# Altium footprint library CR-10 Motherboard.PcbLib: 29 footprints (part 1 of 2)
Each footprint in its own frame and in the unit in brackets; x right, y up, seen from the top. Pads: shape width x height; smd on the part's side, far side on the other; paste and mask are expansions set on the pad; w line width, h text height; cw(c..) or ccw(c..) is an arc to the next point about the centre after c.
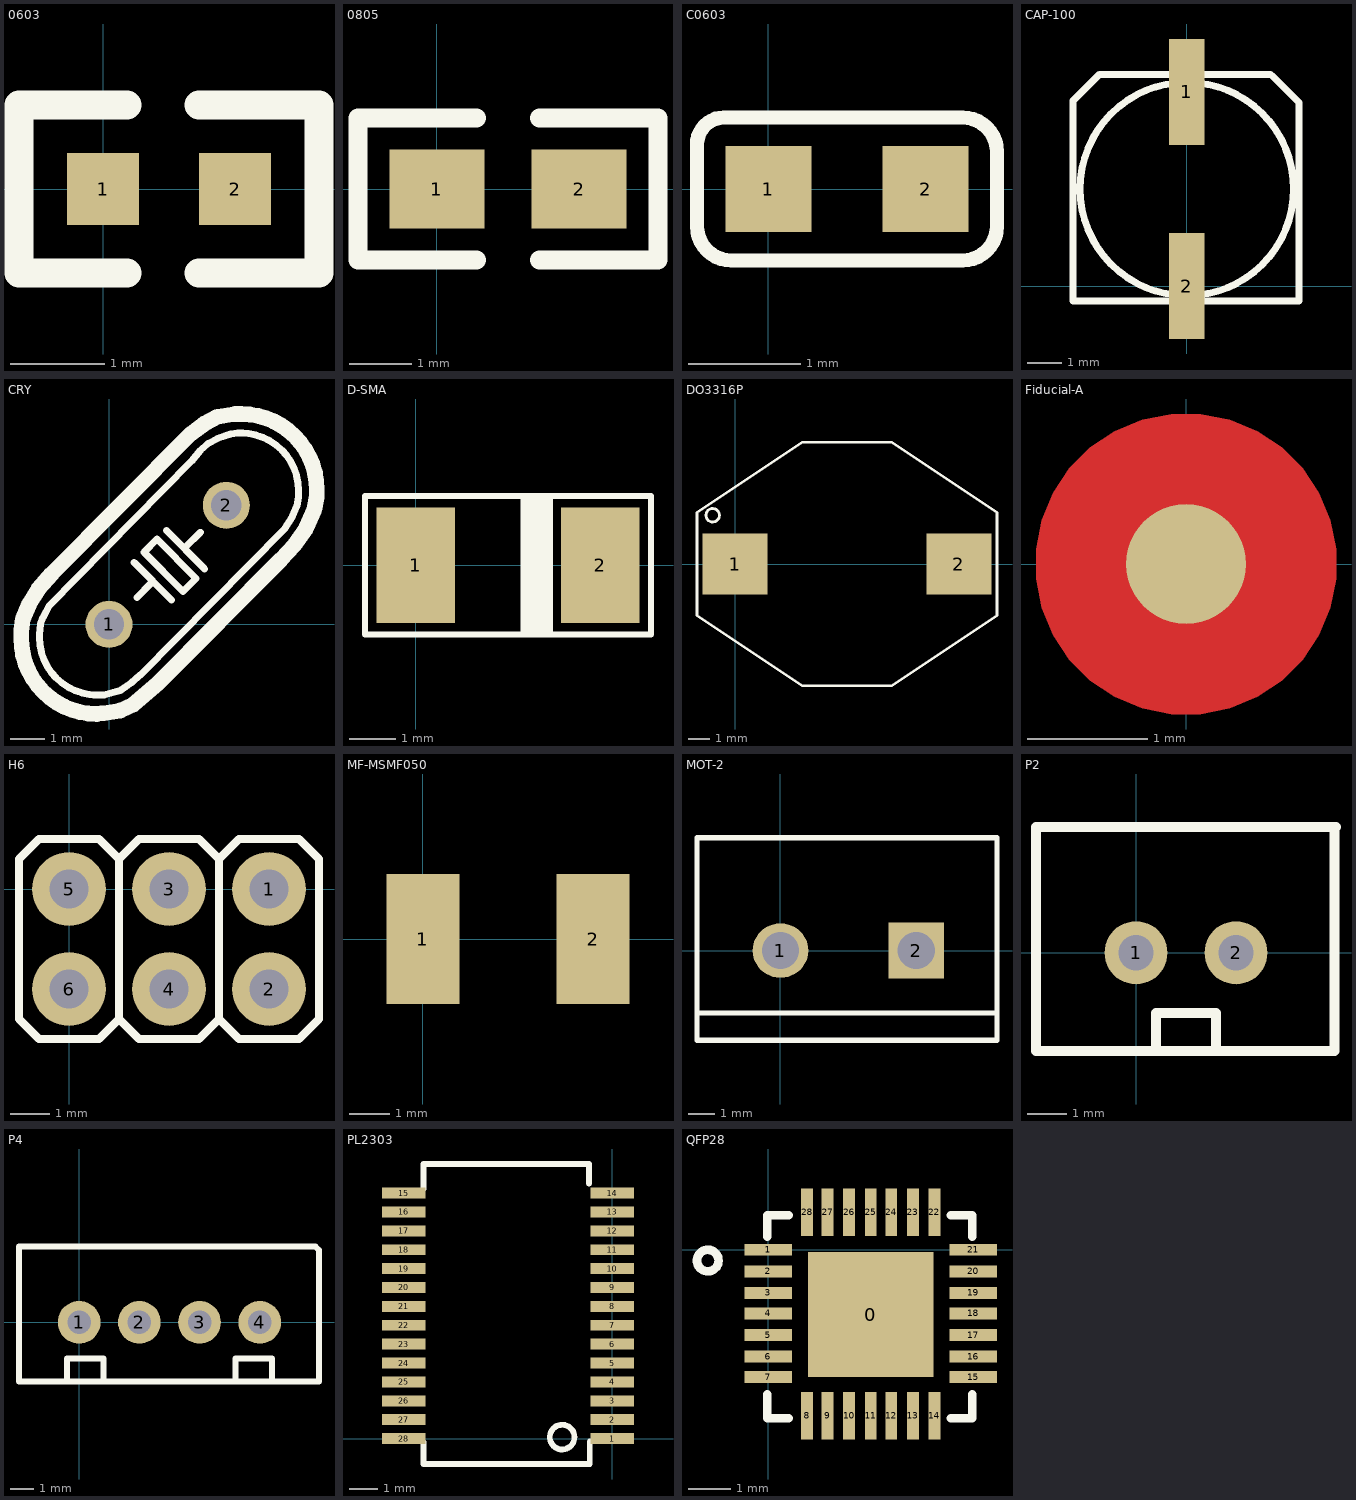
[diagram p0: the footprints below, top view; thin cyan lines are the x and y axes]

## 0603 [mil]
pads (2):
  rect 30x30 smd: 1(0,0) 2(55,0)
Top Overlay:
  lines w12: 10,-35 -35,-35 -35,35 10,35 ; 40,-35 90,-35 90,35 40,35

## 0805 [mil]
pads (2):
  rect 60x50 smd: 1(0,0) 2(90,0)
Top Overlay:
  lines w12: 25,-45 -50,-45 -50,45 25,45 ; 65,-45 140,-45 140,45 65,45

## C0603 [mil]
pads (2):
  rect 30x30 smd: 1(0,0) 2(55,0)
Top Overlay:
  lines w5: -25,-13 ccw(c-13,-13) -13,-25 68,-25 ccw(c68,-13) 80,-13 80,13 ccw(c68,13) 68,25 -15.63,25 ccw(c-15.63,15.63) -25,15.63 -25,-13

## CAP-100 [mil]
pads (2):
  rect 40x120 smd: 1(0,220) 2(0,0)
Top Overlay:
  circle w8: c0,110 r121
  lines w8: 95,240 -99,240 -129,210 -129,-17 127,-17 127,208 97,238

## CRY [mil]
pads (2):
  round 54 hole 35: 1(0,0) 2(135,137)
Top Overlay:
  lines w8: -18,-81 -5,-81 13,-76 26,-67 36,-58 202,110 211,124 216,136 218,147 218,152 ; -14,-81 cw(c-14,-15) -80,-15 -80,-11 -79,0 -76,8 -69,21 95,188 105,200 114,208 125,214 140,219 148,220 154,220 ; 29,71 72,28 ; 32,31 48,47 ; 66,108 110,64 ; 88,89 105,106 ; 152,220 cw(c152,154) 218,154 ; 40,83 85,38 100,53 55,98 40,83
  lines w18: -101,-17 -101,-7 -99,6 -92,23 -81,41 -66,58 95,220 110,231 125,239 145,242 149,242 ; -101,-16 ccw(c-14,-16) -14,-103 ; -9,-102 -6,-102 13,-99 28,-92 56,-68 198,75 213,91 227,111 236,132 239,147 239,151 ; 152,242 cw(c152,155) 239,155

## D-SMA [mm]
height 2.3
pads (2):
  rect 1.7x2.5 smd: 1(0,0) 2(4,0)
Top Overlay:
  rectangle: 2.275,-1.45 2.975,1.55
  lines w0.127: -1.1,-1.5 -1.1,1.5 2.1,1.5 5.1,1.5 5.1,-1.5 -1.1,-1.5

## DO3316P [mm]
height 5.3
pads (2):
  rect 3x2.8 smd: 1(0,0) 2(10.29,0)
Top Overlay:
  circle w0.127: c-1.029,2.24 r0.309
  lines w0.127: 6.586,5.6 7.203,5.6 12.039,2.367 12.039,-2.367 7.203,-5.6 6.689,-5.6 3.601,-5.6 3.087,-5.6 -1.749,-2.367 -1.749,2.367 3.087,5.6 3.601,5.6 6.689,5.6

## EO [mil]

## Fiducial-A [mm]
pads (1):
  round 1 smd mask+0.75: ""(0,0)
Top Layer:
  pour cut-out: -1.25,0 -1.25,-0.123 -1.202,-0.365 -1.108,-0.592 -0.971,-0.797 -0.797,-0.971 -0.592,-1.108 -0.365,-1.202 -0.123,-1.25 0,-1.25 0.123,-1.25 0.365,-1.202 0.592,-1.108 0.797,-0.971 0.971,-0.797 1.108,-0.592 1.202,-0.365 1.25,-0.123 1.25,0 1.25,0.123 1.202,0.365 1.108,0.592 0.971,0.797 0.797,0.971 0.592,1.108 0.365,1.202 0.123,1.25 0,1.25 -0.123,1.25 -0.365,1.202 -0.592,1.108 -0.797,0.971 -0.971,0.797 -1.108,0.592 -1.202,0.365 -1.25,0.123

## H6 [mil]
pads (6):
  round 74 hole 39: 1(200,0) 2(200,-100) 3(100,0) 4(100,-100) 5(0,0) 6(0,-100)
Top Overlay:
  lines w8: 50,-130 70,-150 130,-150 150,-130 ; 50,-130 50,30 ; 50,-130 30,-150 -30,-150 -50,-130 -50,30 -30,50 30,50 50,30 ; 50,-130 50,30 ; 50,30 70,50 130,50 150,30 ; 150,-130 150,30 ; 150,-130 170,-150 230,-150 250,-130 250,30 230,50 170,50 150,30 ; 150,-130 150,30

## MF-MSMF050 [mm]
height 2
pads (2):
  rect 1.8x3.2 smd: 1(0,0) 2(4.2,0)

## MOT-2 [mil]
pads (2):
  oval 82x80 hole 55: 1(0,0)
  rect 82x82 hole 55: 2(200,0)
Top Overlay:
  lines w8: -123,-132 -123,166 319,166 319,-132 -121,-132 ; -120,-92 317,-92

## P2 [mm]
pads (2):
  round 1.6 hole 0.9: 1(0,0) 2(2.54,0)
Top Overlay:
  lines w0.254: 0.508,-2.5 0.508,-1.524 2.032,-1.524 2.032,-2.5 ; 5.04,-0.508 5.04,3.16 ; 5.04,0.04 5.04,-2.5 3.516,-2.5 -2.54,-2.5 -2.54,3.2 5.08,3.2

## P4 [mm]
pads (4):
  round 1.8 hole 0.991: 1(0,0) 2(2.54,0) 3(5.08,0) 4(7.62,0)
Top Overlay:
  lines w0.254: -0.508,-2.5 -0.508,-1.524 1.016,-1.524 1.016,-2.5 ; 6.604,-2.5 6.604,-1.524 8.128,-1.524 8.128,-2.5 ; -2.54,-2.5 -2.54,3.2 5.08,3.2 9.968,3.2 10.12,3.048 10.12,0.04 10.12,-2.5 5.04,-2.5 3.516,-2.5 -2.54,-2.5

## PL2303 [mil]
pads (28):
  rect 60x15 smd: 1(0,0) 2(0,26) 3(0,52) 4(0,78) 5(0,104) 6(0,130) 7(0,156) 8(0,182) 9(0,208) 10(0,234) 11(0,260) 12(0,286) 13(0,312) 14(0,338) 15(-287,338) 16(-287,312) 17(-287,286) 18(-287,260) 19(-287,234) 20(-287,208) 21(-287,182) 22(-287,156) 23(-287,130) 24(-287,104) 25(-287,78) 26(-287,52) 27(-287,26) 28(-287,0)
Top Overlay:
  circle w8: c-69,2 r17
  lines w8: -260,-5 -260,-35 -31,-35 -31,-4 ; -260,344 -260,378 -32,378 -32,351

## QFP28 [mil]
pads (29):
  rect 116x116 / inner rect 116x116 / far side rect 122x122 all layers, no hole: 0(95,-60)
  rect 44x11 smd: 1(0,0) 2(0,-20) 3(0,-40) 4(0,-59) 5(0,-79) 6(0,-99) 7(0,-118) 15(190,-118) 16(190,-99) 17(190,-79) 18(190,-59) 19(190,-40) 20(190,-20) 21(190,0)
  rect 11x44 smd: 8(36,-154) 9(55,-154) 10(75,-154) 11(95,-154) 12(114,-154) 13(134,-154) 14(154,-154) 22(154,35) 23(134,35) 24(114,35) 25(95,35) 26(75,35) 27(55,35) 28(36,35)
Top Overlay:
  circle w8: c-56,-10 r10
  lines w8: -1,-134 -1,-156 19,-156 ; -1,12 -1,32 19,32 ; 169,-156 189,-156 189,-134 ; 169,32 189,32 189,12